# EAGLE library part NANOPI_NEO_CORE (library ali_modules)
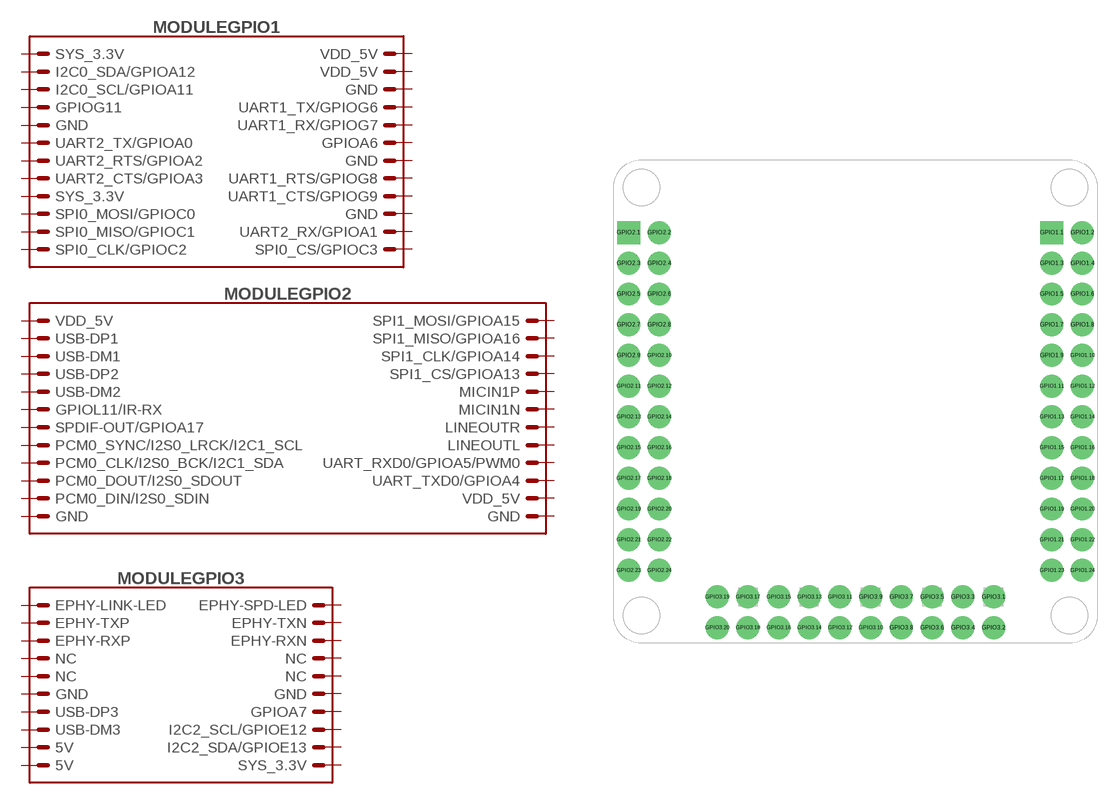
[diagram p6: symbol with the pads of NANOPI_NEO_CORE; footprint NANOPI_NEO_CORE]

Designator prefix MODULE; gates GPIO1=NANOPI_NEO_CORE_GPIO1 GPIO3=NANOPI_NEO_CORE_GPIO3 GPIO2=NANOPI_NEO_CORE_GPIO2

## NANOPI_NEO_CORE  [NANOPI_NEO_CORE]
GPIO1.1  GPIO1:SYS_3.3V  pas
GPIO1.2  GPIO1:VDD_5V  pas
GPIO1.3  GPIO1:I2C0_SDA/GPIOA12  pas
GPIO1.4  GPIO1:VDD_5V  pas
GPIO1.5  GPIO1:I2C0_SCL/GPIOA11  pas
GPIO1.6  GPIO1:GND  pas
GPIO1.7  GPIO1:GPIOG11  pas
GPIO1.8  GPIO1:UART1_TX/GPIOG6  pas
GPIO1.9  GPIO1:GND  pas
GPIO1.10  GPIO1:UART1_RX/GPIOG7  pas
GPIO1.11  GPIO1:UART2_TX/GPIOA0  pas
GPIO1.12  GPIO1:GPIOA6  pas
GPIO1.13  GPIO1:UART2_RTS/GPIOA2  pas
GPIO1.14  GPIO1:GND  pas
GPIO1.15  GPIO1:UART2_CTS/GPIOA3  pas
GPIO1.16  GPIO1:UART1_RTS/GPIOG8  pas
GPIO1.17  GPIO1:SYS_3.3V  pas
GPIO1.18  GPIO1:UART1_CTS/GPIOG9  pas
GPIO1.19  GPIO1:SPI0_MOSI/GPIOC0  pas
GPIO1.20  GPIO1:GND  pas
GPIO1.21  GPIO1:SPI0_MISO/GPIOC1  pas
GPIO1.22  GPIO1:UART2_RX/GPIOA1  pas
GPIO1.23  GPIO1:SPI0_CLK/GPIOC2  pas
GPIO1.24  GPIO1:SPI0_CS/GPIOC3  pas
GPIO2.1  GPIO2:VDD_5V  pas
GPIO2.2  GPIO2:SPI1_MOSI/GPIOA15  pas
GPIO2.3  GPIO2:USB-DP1  pas
GPIO2.4  GPIO2:SPI1_MISO/GPIOA16  pas
GPIO2.5  GPIO2:USB-DM1  pas
GPIO2.6  GPIO2:SPI1_CLK/GPIOA14  pas
GPIO2.7  GPIO2:USB-DP2  pas
GPIO2.8  GPIO2:SPI1_CS/GPIOA13  pas
GPIO2.9  GPIO2:USB-DM2  pas
GPIO2.10  GPIO2:MICIN1P  pas
GPIO2.11  GPIO2:GPIOL11/IR-RX  pas
GPIO2.12  GPIO2:MICIN1N  pas
GPIO2.13  GPIO2:SPDIF-OUT/GPIOA17  pas
GPIO2.14  GPIO2:LINEOUTR  pas
GPIO2.15  GPIO2:PCM0_SYNC/I2S0_LRCK/I2C1_SCL  pas
GPIO2.16  GPIO2:LINEOUTL  pas
GPIO2.17  GPIO2:PCM0_CLK/I2S0_BCK/I2C1_SDA  pas
GPIO2.18  GPIO2:UART_RXD0/GPIOA5/PWM0  pas
GPIO2.19  GPIO2:PCM0_DOUT/I2S0_SDOUT  pas
GPIO2.20  GPIO2:UART_TXD0/GPIOA4  pas
GPIO2.21  GPIO2:PCM0_DIN/I2S0_SDIN  pas
GPIO2.22  GPIO2:VDD_5V  pas
GPIO2.23  GPIO2:GND  pas
GPIO2.24  GPIO2:GND  pas
GPIO3.1  GPIO3:EPHY-LINK-LED  pas
GPIO3.2  GPIO3:EPHY-SPD-LED  pas
GPIO3.3  GPIO3:EPHY-TXP  pas
GPIO3.4  GPIO3:EPHY-TXN  pas
GPIO3.5  GPIO3:EPHY-RXP  pas
GPIO3.6  GPIO3:EPHY-RXN  pas
GPIO3.7  GPIO3:NC  pas
GPIO3.8  GPIO3:NC  pas
GPIO3.9  GPIO3:NC  pas
GPIO3.10  GPIO3:NC  pas
GPIO3.11  GPIO3:GND  pas
GPIO3.12  GPIO3:GND  pas
GPIO3.13  GPIO3:USB-DP3  pas
GPIO3.14  GPIO3:GPIOA7  pas
GPIO3.15  GPIO3:USB-DM3  pas
GPIO3.16  GPIO3:I2C2_SCL/GPIOE12  pas
GPIO3.17  GPIO3:5V  pas
GPIO3.18  GPIO3:I2C2_SDA/GPIOE13  pas
GPIO3.19  GPIO3:5V  pas
GPIO3.20  GPIO3:SYS_3.3V  pas

## Footprint NANOPI_NEO_CORE (pad centres in mm)
drill 1 pad 1.9 square: GPIO1.1 16.23,13.97; GPIO2.1 -18.77,13.97
drill 1 pad 1.9: GPIO1.2 18.77,13.97; GPIO1.3 16.23,11.43; GPIO1.4 18.77,11.43; GPIO1.5 16.23,8.89; GPIO1.6 18.77,8.89; GPIO1.7 16.23,6.35; GPIO1.8 18.77,6.35; GPIO1.9 16.23,3.81; GPIO1.10 18.77,3.81; GPIO1.11 16.23,1.27; GPIO1.12 18.77,1.27; GPIO1.13 16.23,-1.27; GPIO1.14 18.77,-1.27; GPIO1.15 16.23,-3.81; GPIO1.16 18.77,-3.81; GPIO1.17 16.23,-6.35; GPIO1.18 18.77,-6.35; GPIO1.19 16.23,-8.89; GPIO1.20 18.77,-8.89; GPIO1.21 16.23,-11.43; GPIO1.22 18.77,-11.43; GPIO1.23 16.23,-13.97; GPIO1.24 18.77,-13.97; GPIO2.2 -16.23,13.97; GPIO2.3 -18.77,11.43; GPIO2.4 -16.23,11.43; GPIO2.5 -18.77,8.89; GPIO2.6 -16.23,8.89; GPIO2.7 -18.77,6.35; GPIO2.8 -16.23,6.35; GPIO2.9 -18.77,3.81; GPIO2.10 -16.23,3.81; GPIO2.11 -18.77,1.27; GPIO2.12 -16.23,1.27; GPIO2.13 -18.77,-1.27; GPIO2.14 -16.23,-1.27; GPIO2.15 -18.77,-3.81; GPIO2.16 -16.23,-3.81; GPIO2.17 -18.77,-6.35; GPIO2.18 -16.23,-6.35; GPIO2.19 -18.77,-8.89; GPIO2.20 -16.23,-8.89; GPIO2.21 -18.77,-11.43; GPIO2.22 -16.23,-11.43; GPIO2.23 -18.77,-13.97; GPIO2.24 -16.23,-13.97; GPIO3.1 11.415,-16.165; GPIO3.2 11.415,-18.705; GPIO3.3 8.875,-16.165; GPIO3.4 8.875,-18.705; GPIO3.5 6.335,-16.165; GPIO3.6 6.335,-18.705; GPIO3.7 3.795,-16.165; GPIO3.8 3.795,-18.705; GPIO3.9 1.255,-16.165; GPIO3.10 1.255,-18.705; GPIO3.11 -1.285,-16.165; GPIO3.12 -1.285,-18.705; GPIO3.13 -3.825,-16.165; GPIO3.14 -3.825,-18.705; GPIO3.15 -6.365,-16.165; GPIO3.16 -6.365,-18.705; GPIO3.17 -8.905,-16.165; GPIO3.18 -8.905,-18.705; GPIO3.19 -11.445,-16.165; GPIO3.20 -11.445,-18.705